# Altium schematic symbol library MeiG.SchLib: 2 symbols
Pins are listed as number, name and electrical type; pins without a type are passive.

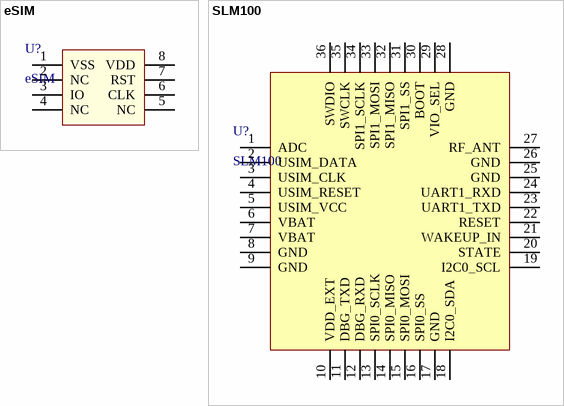
[diagram p0: symbols eSIM to SLM100]

## eSIM
designator U?
中移物联网eSIM 芯片
footprint WSON8_2X2
footprint WSON8_5X6
footprint WSON8_5X6-L
footprint WSON8_5X6-M
pins: 1 VSS, 2 NC, 3 IO, 4 NC, 5 NC, 6 CLK, 7 RST, 8 VDD

## SLM100
designator U?
SLM100 NB-IOT 模块
footprint SLM100
pins: 1 ADC, 2 USIM_DATA, 3 USIM_CLK, 4 USIM_RESET, 5 USIM_VCC, 6 VBAT, 7 VBAT, 8 GND, 9 GND, 10 VDD_EXT, 11 DBG_TXD, 12 DBG_RXD, 13 SPI0_SCLK, 14 SPI0_MISO, 15 SPI0_MOSI, 16 SPI0_SS, 17 GND, 18 I2C0_SDA, 19 I2C0_SCL, 20 STATE, 21 WAKEUP_IN, 22 RESET, 23 UART1_TXD, 24 UART1_RXD, 25 GND, 26 GND, 27 RF_ANT, 28 GND, 29 VIO_SEL, 30 BOOT, 31 SPI1_SS, 32 SPI1_MISO, 33 SPI1_MOSI, 34 SPI1_SCLK, 35 SWCLK, 36 SWDIO